# EAGLE library part LPD6803 (library jasons_stuff)
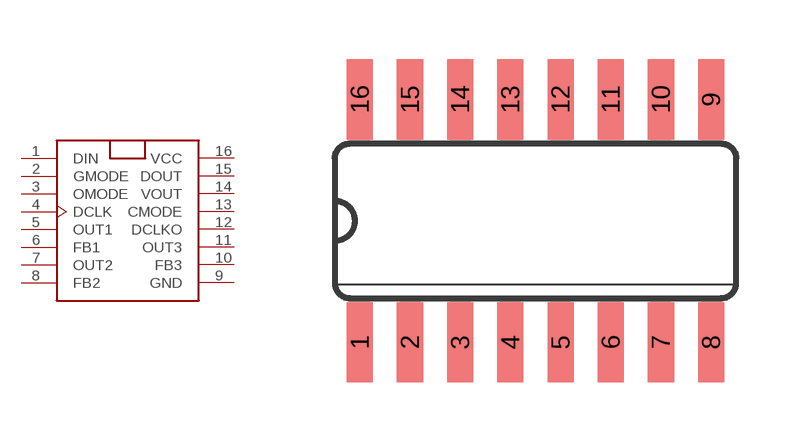
[diagram p29: symbol with the pads of SO16; footprint SO16]

Designator prefix -

## LPD6803SO16  [SO16]
1  DIN
2  GMODE
3  OMODE
4  DCLK
5  OUT1
6  FB1
7  OUT2
8  FB2
9  GND  pwr
10  FB3
11  OUT3
12  DCLKO
13  CMODE
14  VOUT
15  DOUT
16  VCC  pwr

## Footprint SO16 (pad centres in mm)
Small Outline package 150 mil
smd 0.66 x 2.032: 1 -4.445,-3.073; 2 -3.175,-3.073; 3 -1.905,-3.073; 4 -0.635,-3.073; 5 0.635,-3.073; 6 1.905,-3.073; 7 3.175,-3.073; 8 4.445,-3.073; 9 4.445,3.073; 10 3.175,3.073; 11 1.905,3.073; 12 0.635,3.073; 13 -0.635,3.073; 14 -1.905,3.073; 15 -3.175,3.073; 16 -4.445,3.073